# Altium footprint library Bridge Rectifiers.PcbLib: 37 footprints (part 1 of 3)
Each footprint in its own frame and in the unit in brackets; x right, y up, seen from the top. Pads: shape width x height; smd on the part's side, far side on the other; paste and mask are expansions set on the pad; w line width, h text height; cw(c..) or ccw(c..) is an arc to the next point about the centre after c.
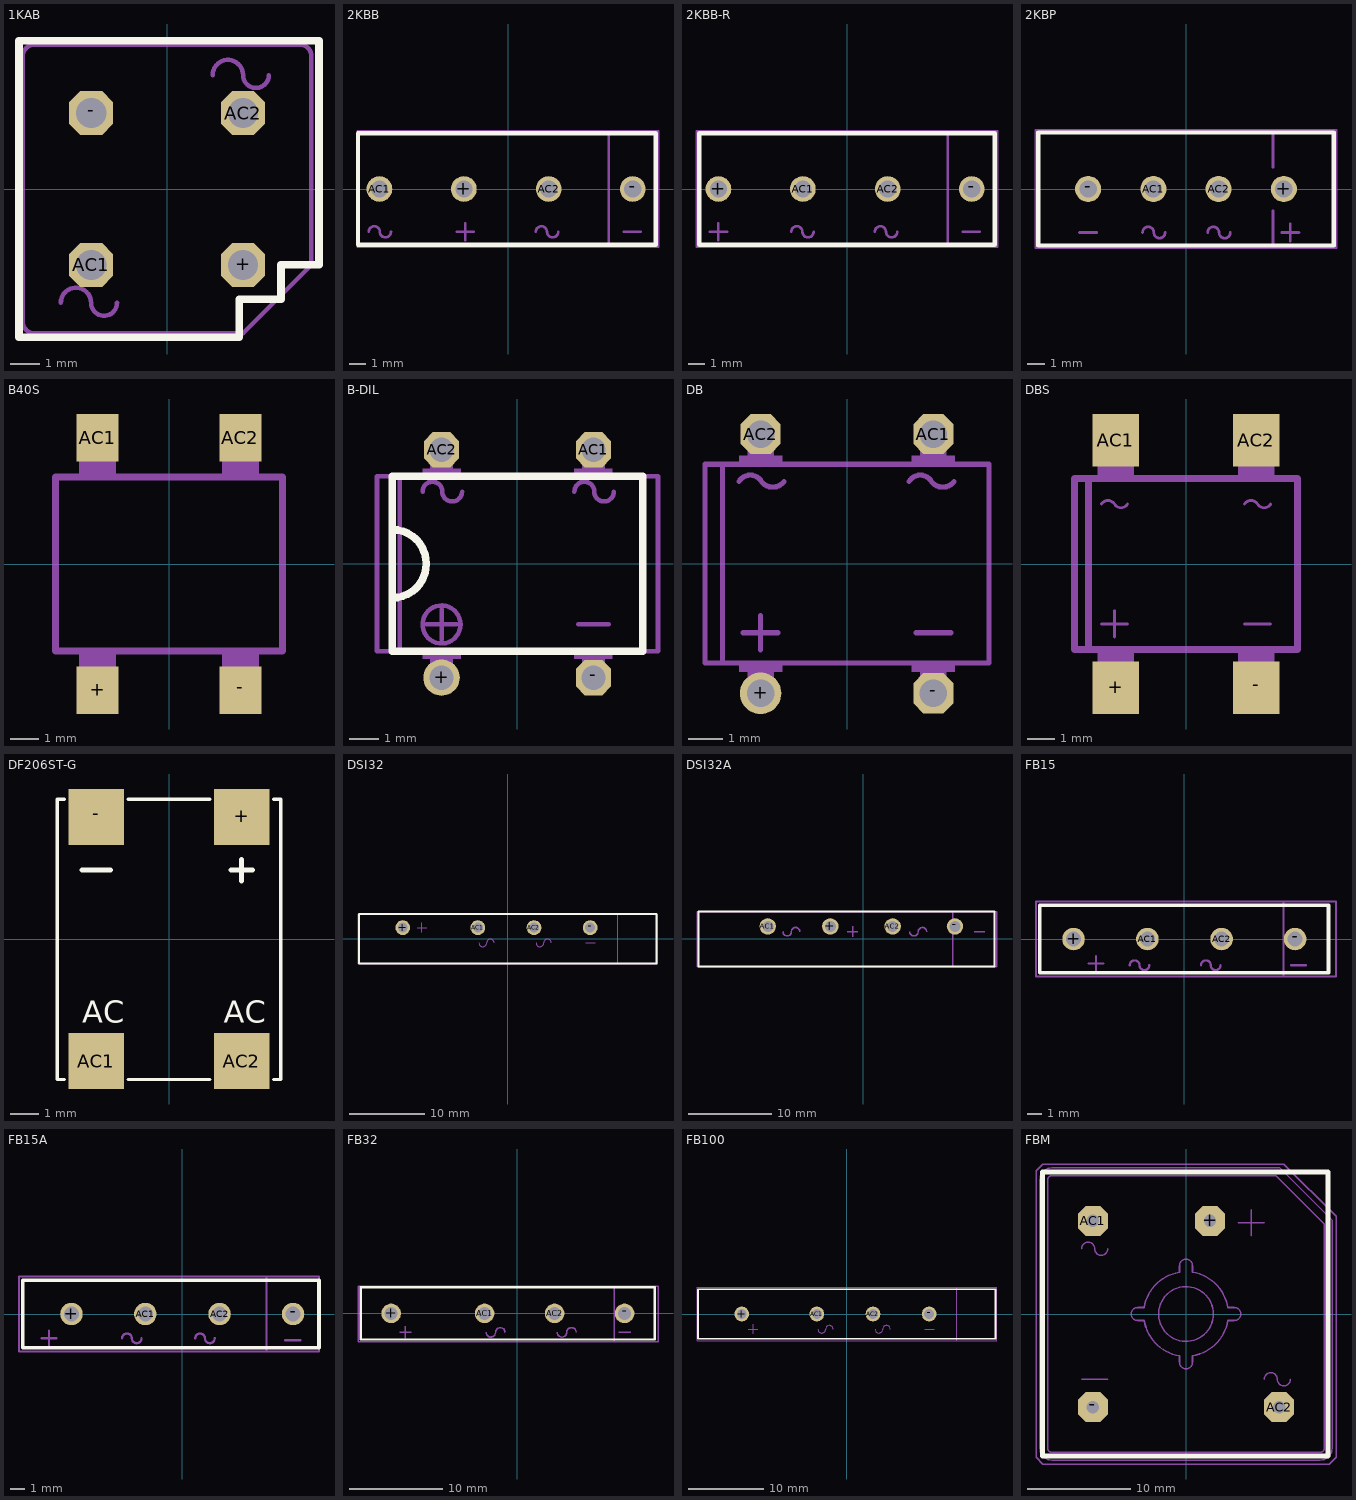
[diagram p0: the footprints below, top view; thin cyan lines are the x and y axes]

## 1KAB [mil]
pads (4):
  oct 58.09x58.09 / inner oct 60x60 / far side oct 58.09x58.09 hole 40: +(100,-100) -(-100,100) AC1(-100,-100) AC2(100,100)
Top Overlay:
  lines w10: -195,-195 -195,195 200,195 200,-100 150,-100 150,-145 95,-145 95,-195 -195,-195
Mechanical 8:
  lines w6: -140,-150 cw(c-120,-150) -100,-150 ccw(c-83,-150) -66,-150 ; 60,150 cw(c80,150) 100,150 ccw(c117,150) 134,150
Mechanical 22:
  lines w6: -190,-175 ccw(c-175,-175) -175,-190 100,-190 190,-100 190,175 ccw(c175,175) 175,190 -175,190 ccw(c-175,175) -190,175 -190,-175

## 2KBB [mil]
pads (4):
  round 60 hole 40: +(-103,0) -(291,0) AC1(-300,0) AC2(95,0)
Top Overlay:
  lines w10: -350,-130 345,-130 345,130 -350,130 -350,-130
Mechanical 22:
  lines w6: -325,-100 cw(c-312,-100) -299,-100 ccw(c-286,-100) -273,-100 ; -120,-100 -80,-100 ; -100,-120 -100,-80 ; 65,-100 cw(c78,-100) 91,-100 ccw(c104,-100) 117,-100 ; 270,-100 310,-100 ; 235,-135 235,135 ; 235,-135 -350,-135 -350,135 235,135 ; 235,-135 350,-135 350,135 235,135

## 2KBB-R [mil]
pads (4):
  round 60 hole 40: +(-300,0) -(291,0) AC1(-103,0) AC2(95,0)
Top Overlay:
  lines w10: -345,-130 345,-130 345,130 -345,130 -345,-130
Mechanical 22:
  lines w6: -320,-100 -280,-100 ; -300,-120 -300,-80 ; -130,-100 cw(c-117,-100) -104,-100 ccw(c-91,-100) -78,-100 ; 65,-100 cw(c78,-100) 91,-100 ccw(c104,-100) 117,-100 ; 270,-100 310,-100 ; 235,-135 235,135 ; 235,-135 -350,-135 -350,135 235,135 ; 235,-135 350,-135 350,135 235,135

## 2KBP [mil]
pads (4):
  round 60 hole 40: +(225,0) -(-225,0) AC1(-75,0) AC2(75,0)
Top Overlay:
  lines w10: -340,-130 340,-130 340,130 -340,130 -340,-130
Mechanical 22:
  lines w6: -245,-100 -205,-100 ; -100,-100 cw(c-87,-100) -74,-100 ccw(c-61,-100) -48,-100 ; 50,-100 cw(c63,-100) 76,-100 ccw(c89,-100) 102,-100 ; 200,-50 200,-135 ; 200,50 200,135 ; 220,-100 260,-100 ; 240,-120 240,-80 ; 200,-135 -345,-135 -345,135 200,135 ; 200,-135 345,-135 345,135 200,135

## B40S [mil]
pads (4):
  rect 59.06x66.93 smd: +(-100.39,-177.17) -(100.39,-177.17) AC1(-100.39,177.17) AC2(100.39,177.17)
Mechanical 8:
  region: -74.8,200.79 -74.8,125.98 -125.98,125.98 -125.98,200.79
  region: 125.98,200.79 125.98,125.98 74.8,125.98 74.8,200.79
  region: 74.8,-200.79 74.8,-125.98 125.98,-125.98 125.98,-200.79
  region: -125.98,-200.79 -125.98,-125.98 -74.8,-125.98 -74.8,-200.79
Mechanical 22:
  lines w10: -159.45,-122.05 -159.45,122.05 159.45,122.05 159.45,-122.05 -159.45,-122.05

## B-DIL [mil]
pads (4):
  round 48 / inner round 60 / far side round 48 hole 32: +(-100,-150)
  oct 46.48x46.48 / inner oct 60x60 / far side oct 46.48x46.48 hole 32: -(100,-150) AC1(100,150) AC2(-100,150)
Top Overlay:
  lines w10: -165,-45 ccw(c-165,0) -165,45 ; -165,-115 165,-115 165,115 -165,115 -165,-115
Mechanical 8:
  region: -125,115 -125,125 -75,125 -75,115
  region: 75,115 75,125 125,125 125,115
  region: 75,-125 75,-115 125,-115 125,-125
  region: -125,-125 -125,-115 -75,-115 -75,-125
  region: -115,115 -115,150 -85,150 -85,115
  region: 85,115 85,150 115,150 115,115
  region: 85,-150 85,-115 115,-115 115,-150
  region: -115,-150 -115,-115 -85,-115 -85,-150
Mechanical 22:
  circle w6: c-100,-80 r25
  lines w6: -125,95 cw(c-112,95) -99,95 ccw(c-86,95) -73,95 ; -120,-80 -80,-80 ; -100,-100 -100,-60 ; 75,95 cw(c88,95) 101,95 ccw(c114,95) 127,95 ; 80,-80 120,-80 ; -155,-115 185,-115 185,115 -155,115 ; -155,-115 -155,115 ; -155,-115 -185,-115 -185,115 -155,115
3D body "DF005.step": height 143.7, standoff -124.41, extent -161.41,-155.9 161.42,155.9

## DB [mil]
pads (4):
  round 48 / inner round 60 / far side round 48 hole 32: +(-100,-150)
  oct 46.48x46.48 / inner oct 60x60 / far side oct 46.48x46.48 hole 32: -(100,-150) AC1(100,150) AC2(-100,150)
Mechanical 8:
  region: -115,-150 -115,-115 -85,-115 -85,-150
  region: 85,-150 85,-115 115,-115 115,-150
  region: 85,115 85,150 115,150 115,115
  region: -115,115 -115,150 -85,150 -85,115
  region: -125,-125 -125,-115 -75,-115 -75,-125
  region: 75,-125 75,-115 125,-115 125,-125
  region: 75,115 75,125 125,125 125,115
  region: -125,115 -125,125 -75,125 -75,115
Mechanical 22:
  lines w6: -125,95 cw(c-112,87.41) -99,95 ccw(c-86,104.76) -73,95 ; -120,-80 -80,-80 ; -100,-100 -100,-60 ; 71.85,95 cw(c84.85,87.41) 97.85,95 ccw(c110.85,104.76) 123.85,95 ; 80,-80 120,-80 ; -144.17,-115 -164.33,-115 -164.33,115 -144.17,115 ; -144.17,-115 -144.17,115 ; -144.17,-115 164.33,-115 164.33,115 -144.17,115

## DBS [mil]
pads (4):
  rect 66.93x74.8 smd: +(-100.39,-177.17) -(100.39,-177.17) AC1(-100.39,177.17) AC2(100.39,177.17)
Mechanical 8:
  region: -74.8,200.79 -74.8,125.98 -125.98,125.98 -125.98,200.79
  region: 125.98,200.79 125.98,125.98 74.8,125.98 74.8,200.79
  region: 74.8,-200.79 74.8,-125.98 125.98,-125.98 125.98,-200.79
  region: -125.98,-200.79 -125.98,-125.98 -74.8,-125.98 -74.8,-200.79
Mechanical 22:
  lines w4: -121.06,-85.63 -83.66,-85.63 ; -121.06,85.63 cw(c-111.71,79.82) -102.36,85.63 ccw(c-93.01,91.44) -83.66,85.63 ; -102.36,-104.33 -102.36,-66.93 ; 83.66,-85.63 121.06,-85.63 ; 83.66,85.63 cw(c93.01,79.82) 102.36,85.63 ccw(c111.71,91.44) 121.06,85.63
  lines w10: -139.76,122.05 -139.76,-122.05 ; -139.76,-122.05 -159.45,-122.05 -159.45,122.05 159.45,122.05 159.45,-122.05 -139.76,-122.05

## DF206ST-G [mm]
pads (4):
  rect 2x2 smd: +(2.605,4.37) -(-2.605,4.37) AC1(-2.605,-4.37) AC2(2.605,-4.37)
Top Overlay:
  lines w0.12: -3.748,-5.028 -4.002,-5.028 -4.002,5.005 -3.748,5.005 ; -1.462,-5.028 1.459,-5.028 ; -1.462,5.005 1.459,5.005 ; 3.745,-5.028 3.999,-5.028 3.999,5.005 3.745,5.005
  lines w0.18: -3.113,2.465 -2.097,2.465 ; 2.221,2.465 2.983,2.465 ; 2.602,2.084 2.602,2.846
  text "AC" at -3.113,-2.996 h0.8
  text "AC" at 1.967,-2.996 h0.8
3D body "User Library-DFS.STEP": height 2.61, standoff 0.02, extent -4.102,-5.162 4.099,5.139
3D body "User Library-PONTE-1.STEP": height 2.7, standoff 0, extent -4.051,-5.087 4.049,5.063

## DSI32 [mil]
pads (4):
  round 78 / inner round 60 / far side round 78 hole 52: +(-551.18,59.06) -(432.82,59.06) AC1(-157.18,59.06) AC2(137.82,59.06)
Top Overlay:
  lines w10: -780,-130 -780,130 780,130 780,-130 -780,-130
Mechanical 22:
  lines w6: -476.18,59.06 -426.18,59.06 ; -451.18,34.06 -451.18,84.06 ; -151.18,-20.94 ccw(c-131.18,-20.94) -111.18,-20.94 cw(c-91.18,-20.94) -71.18,-20.94 ; 148.82,-20.94 ccw(c168.82,-20.94) 188.82,-20.94 cw(c208.82,-20.94) 228.82,-20.94 ; 408.82,-20.94 458.82,-20.94 ; 578.82,-130.94 788.82,-130.94 788.82,129.06 578.82,129.06 ; 578.82,-130.94 578.82,129.06 ; 578.82,-130.94 -786.18,-130.94 -786.18,129.06 578.82,129.06

## DSI32A [mil]
pads (4):
  round 78 / inner round 60 / far side round 78 hole 52: +(-156.76,59.06) -(433.24,59.06) AC1(-452.76,59.06) AC2(138.24,59.06)
Top Overlay:
  lines w10: -780,-130 -780,130 620,130 620,-130 -780,-130
Mechanical 8:
  lines w6: 422.24,-15.94 422.24,129.06
Mechanical 22:
  lines w6: -380.76,34.06 ccw(c-360.76,34.06) -340.76,34.06 cw(c-320.76,34.06) -300.76,34.06 ; -75.75,34.06 -25.75,34.06 ; -50.75,9.06 -50.75,59.06 ; 219.24,34.06 ccw(c239.24,34.06) 259.24,34.06 cw(c279.24,34.06) 299.24,34.06 ; 422.24,-15.94 422.24,-130.94 ; 524.25,34.06 574.25,34.06 ; 422.24,-130.94 632.24,-130.94 632.24,129.06 -787.76,129.06 -787.76,-130.94 422.24,-130.94

## FB15 [mil]
pads (4):
  round 60 hole 40: +(-295.28,0) -(295.72,0) AC1(-98.28,0) AC2(99.72,0)
Top Overlay:
  lines w10: -385,-90 -385,90 385,90 385,-90 -385,-90
Mechanical 8:
  lines w6: 264.72,-55 264.72,55
Mechanical 22:
  lines w6: -255.28,-65 -215.28,-65 ; -235.28,-85 -235.28,-45 ; -145.28,-70 cw(c-132.28,-70) -119.28,-70 ccw(c-106.28,-70) -93.28,-70 ; 44.72,-70 cw(c57.72,-70) 70.72,-70 ccw(c83.72,-70) 96.72,-70 ; 264.72,-55 264.72,-100 ; 264.72,55 264.72,100 ; 284.72,-70 324.72,-70 ; 264.72,-100 -395.28,-100 -395.28,100 264.72,100 ; 264.72,-100 404.72,-100 404.72,100 264.72,100

## FB15A [mil]
pads (4):
  round 60 hole 40: +(-295.28,0) -(295.72,0) AC1(-98.28,0) AC2(99.72,0)
Top Overlay:
  lines w10: -425,-90 -425,90 365,90 365,-90 -425,-90
Mechanical 22:
  lines w6: -375.28,-65 -335.28,-65 ; -355.28,-85 -355.28,-45 ; -160.28,-65 cw(c-147.28,-65) -134.28,-65 ccw(c-121.28,-65) -108.28,-65 ; 34.72,-65 cw(c47.72,-65) 60.72,-65 ccw(c73.72,-65) 86.72,-65 ; 274.72,-70 314.72,-70 ; 224.72,-100 224.72,100 ; 224.72,-100 -435.28,-100 -435.28,100 224.72,100 ; 224.72,-100 364.72,-100 364.72,100 224.72,100

## FB32 [mil]
pads (4):
  round 82.5 / inner round 60 / far side round 82.5 hole 55: +(-531.5,0) -(452.5,0) AC1(-137.5,0) AC2(157.5,0)
Top Overlay:
  lines w10: -660,-110 -660,110 580,110 580,-110 -660,-110
Mechanical 8:
  lines w6: 408.5,-65 408.5,65
Mechanical 22:
  lines w6: -496.5,-80 -446.5,-80 ; -471.5,-105 -471.5,-55 ; -131.5,-80 ccw(c-111.5,-80) -91.5,-80 cw(c-71.5,-80) -51.5,-80 ; 168.5,-80 ccw(c188.5,-80) 208.5,-80 cw(c228.5,-80) 248.5,-80 ; 408.5,-65 408.5,-120 ; 408.5,65 408.5,115 ; 428.5,-80 478.5,-80 ; 408.5,-120 593.5,-120 593.5,115 408.5,115 ; 408.5,-120 -671.5,-120 -671.5,115 408.5,115

## FB100 [mil]
pads (4):
  round 78 / inner round 60 / far side round 78 hole 52: +(-551.18,0) -(432.82,0) AC1(-157.18,0) AC2(137.82,0)
Top Overlay:
  lines w10: -780,-130 780,-130 780,130 -780,130 -780,-130
Mechanical 22:
  lines w6: -516.18,-80 -466.18,-80 ; -491.18,-105 -491.18,-55 ; -151.18,-80 ccw(c-131.18,-80) -111.18,-80 cw(c-91.18,-80) -71.18,-80 ; 148.82,-80 ccw(c168.82,-80) 188.82,-80 cw(c208.82,-80) 228.82,-80 ; 408.82,-80 458.82,-80 ; 578.82,-140 -786.18,-140 -786.18,140 578.82,140 ; 578.82,-140 578.82,140 ; 578.82,-140 788.82,-140 788.82,140 578.82,140

## FBM [mil]
pads (4):
  oct 114.36x114.36 / inner oct 60x60 / far side oct 114.36x114.36 hole 47: +(92,357) -(-357,-357) AC1(-357,357) AC2(357,-357)
Top Overlay:
  lines w19.68: -550,-545 -550,545 545,545 545,-545 -550,-545
Mechanical 22:
  circle w6: c0,0 r105
  lines w6: -400,-250 -300,-250 ; -400,250 cw(c-375,250) -350,250 ccw(c-325,250) -300,250 ; -160,-25 -185,-25 cw(c-185,0) -185,25 -160,25 cw(c0,0) -26.62,159.74 ; -159.87,-25.79 ccw(c0,0) -25,-160 -25,-185 ccw(c0,-185) 25,-185 25,-160 ; -25,160 -25,185 cw(c0,185) 25,185 25,160 cw(c0,0) 160.19,23.73 ; 25.79,-159.87 ccw(c0,0) 160,-25 185,-25 ccw(c185,0) 185,25 160,25 ; 200,350 300,350 ; 250,300 250,400 ; 300,-250 cw(c325,-250) 350,-250 ccw(c375,-250) 400,-250 ; -560,-515 ccw(c-515,-515) -515,-560 515,-560 ccw(c515,-515) 560,-515 560,360 360,560 -515,560 ccw(c-515,515) -560,515 -560,-515 ; -530,-515 ccw(c-515,-515) -515,-530 515,-530 ccw(c515,-515) 530,-515 530,345 345,530 -515,530 ccw(c-515,515) -530,515 -530,-515
Mechanical 30:
  lines w5: -575,-550 -575,550 -550,575 375,575 575,375 575,-550 550,-575 -550,-575 -575,-550